# Altium integrated library MAX98357AETE_T.IntLib: 1 symbol
Pins are listed as number, name and electrical type; pins without a type are passive.

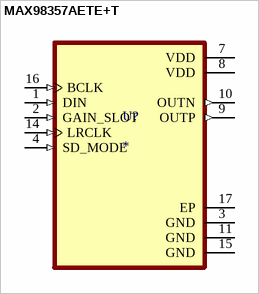
[diagram p0: symbol MAX98357AETE+T]

## MAX98357AETE+T
designator U?
Tiny, Low-Cost, PCM Class D Amplifier with Class AB Performance; MF: Analog Devices; MP: MAX98357AETE+T; SnapEDA_Link: https://www.snapeda.com/parts/MAX98357AETE+T/Analog+Devices/view-part/?ref=snap; Package: TQFN-16 Maxim; Value: *; Check_prices: https://www.snapeda.com/parts/MAX98357AETE+T/Analog+Devices/view-part/?ref=eda
footprint QFN50P300X300X80-17N
pins: 1 DIN (in), 2 GAIN_SLOT (in), 3 GND (power), 4 SD_MODE (in), 7 VDD (power), 8 VDD (power), 9 OUTP (out), 10 OUTN (out), 11 GND (power), 14 LRCLK (in), 15 GND (power), 16 BCLK (in), 17 EP (power)